# Altium schematic symbol library CAP,Alum,47uF,20%,35V,Radial.Schlib: 1 symbol
Pins are listed as number, name and electrical type; pins without a type are passive.

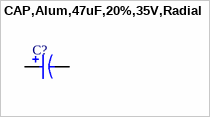
[diagram p0: symbol CAP,Alum,47uF,20%,35V,Radial]

## CAP,Alum,47uF,20%,35V,Radial
designator C?
pins: 1, 2